# Altium footprint library optocouplers.PcbLib: 2 footprints
Each footprint in its own frame and in the unit in brackets; x right, y up, seen from the top. Pads: shape width x height; smd on the part's side, far side on the other; paste and mask are expansions set on the pad; w line width, h text height; cw(c..) or ccw(c..) is an arc to the next point about the centre after c.
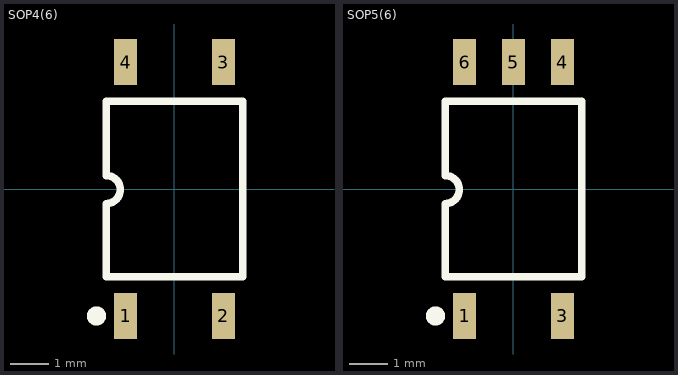
[diagram p0: the footprints below, top view; thin cyan lines are the x and y axes]

## SOP4(6) [mm] "Small Outline; 6 Leads (2 Absent); Body Width 4.4 mm; Pitch 1.27 mm"
height 2.4
pads (4):
  rect 0.6x1.2 smd: 1(-1.27,-3.302) 2(1.27,-3.302) 3(1.27,3.302) 4(-1.27,3.302)
Top Overlay:
  circle w0.25: c-2.03,-3.302 r0.125
  lines w0.2: -1.778,0.352 cw(c-1.778,-0.014) -1.778,-0.381 -1.778,-2.286 1.778,-2.286 1.778,2.286 -1.778,2.286 -1.778,0.381
3D body: height 2, standoff -0.1, extent -1.8,-3.5 1.8,3.5

## SOP5(6) [mm] "Small Outline; 6 Leads (1 Absent); Body Width 4.4 mm; Pitch 1.27 mm"
height 2.4
pads (5):
  rect 0.6x1.2 smd: 1(-1.27,-3.302) 3(1.27,-3.302) 4(1.27,3.302) 5(0,3.302) 6(-1.27,3.302)
Top Overlay:
  circle w0.25: c-2.03,-3.302 r0.125
  lines w0.2: -1.778,0.352 cw(c-1.778,-0.014) -1.778,-0.381 -1.778,-2.286 1.778,-2.286 1.778,2.286 -1.778,2.286 -1.778,0.381
3D body: height 2, standoff -0.1, extent -1.8,-3.5 1.8,3.5